# Altium footprint library Misc.PcbLib: 56 footprints (part 4 of 4)
Each footprint in its own frame and in the unit in brackets; x right, y up, seen from the top. Pads: shape width x height; smd on the part's side, far side on the other; paste and mask are expansions set on the pad; w line width, h text height; cw(c..) or ccw(c..) is an arc to the next point about the centre after c.
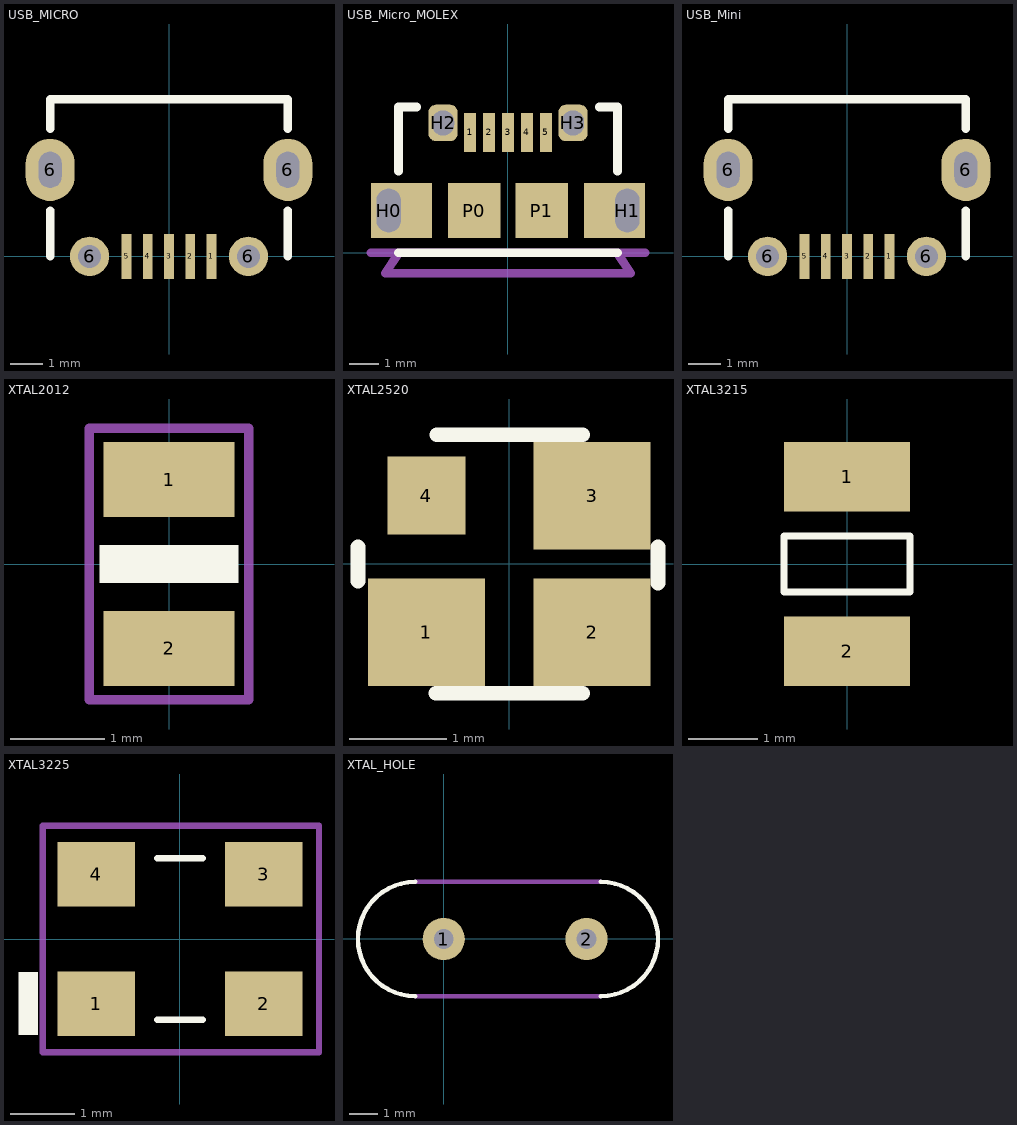
[diagram p3: the footprints below, top view; thin cyan lines are the x and y axes]

## USB_MICRO [mil] "USB Micro SMT 5S B"
height 118.11
pads (9):
  rect 11.81x54 smd: 1(51,0) 2(25.5,0) 3(0,0) 4(-25.5,0) 5(-51,0)
  oval 59.06x74.8 hole 27.56 slot 43.31 at 90 deg: 6(-143,104) 6(143,104)
  round 47.24 hole 27.5: 6(-95.5,0) 6(95.5,0)
Top Overlay:
  lines w10: -142.72,0 -142.72,55.12 ; -142.72,153.54 -142.72,188.98 142.72,188.98 142.72,153.54 ; 142.72,0 142.72,55.12

## USB_Micro_MOLEX [mm] "USB Micro-AB socket Molex 47589-0001"
height 2.5
pads (11):
  rect 0.4x1.35 smd: 1(-1.3,4.125) 2(-0.65,4.125) 3(0,4.125) 4(0.65,4.125) 5(1.3,4.125)
  rect 2.1x1.9 hole 0.83 slot 1.5 at 90 deg copper offset 0.44,0: H0(-4.09,1.45)
  rect 2.1x1.9 hole 0.83 slot 1.5 at 90 deg copper offset -0.44,0: H1(4.09,1.45)
  rrect50% 1x1.25 / inner rrect50% 1.15x1.25 / far side rrect50% 1.15x1.25 hole 0.75 slot 0.85 at 90 deg: H2(-2.225,4.45) H3(2.225,4.45)
  rect 1.8x1.9 smd: P0(-1.15,1.45) P1(1.15,1.45)
Top Overlay:
  lines w0.3: -3.75,0 3.75,0 ; -3.75,2.8 -3.75,5 -3.125,5 ; 3.125,5 3.75,5 3.75,2.8
Top Paste:
  rectangle: -3.7,0.5 -2.6,2.4
  rectangle: 2.6,0.5 3.7,2.4
Mechanical 1:
  lines w0.3: -4.7,0 4.7,0 ; -4.2,-0.7 -3.75,0 3.75,0 4.2,-0.7 -4.2,-0.7
  text "Overhang" at -1.5,-0.45 h0.3
3D body: height 2.76, standoff -0.55, extent -4.35,-1.175 4.3,4.719

## USB_Mini [mil] "USB Mini"
height 118.11
pads (9):
  rect 11.81x54 smd: 1(51,0) 2(25.5,0) 3(0,0) 4(-25.5,0) 5(-51,0)
  oval 59.06x74.8 hole 27.56 slot 43.31 at 90 deg: 6(-143,104) 6(143,104)
  round 47.24 hole 27.5: 6(-95.5,0) 6(95.5,0)
Top Overlay:
  lines w10: -142.72,0 -142.72,55.12 ; -142.72,153.54 -142.72,188.98 142.72,188.98 142.72,153.54 ; 142.72,0 142.72,55.12

## XTAL2012 [mm] "即0805   焊盘宽0.5  引脚间隔1mm 两边+0.1 长度+0.3"
height 2
pads (2):
  rect 1.4x0.8 smd: 1(0,0.9) 2(0,-0.9)
Top Overlay:
  region: -0.737,-0.2 0.737,-0.2 0.737,0.2 -0.737,0.2
Mechanical 15:
  lines w0.1: -0.85,-1.45 0.85,-1.45 0.85,1.45 -0.85,1.45 -0.85,-1.45

## XTAL2520 [mm]
pads (4):
  rect 1.2x1.1 smd: 1(-0.85,-0.7) 2(0.85,-0.7) 3(0.85,0.7)
  rect 0.8x0.8 smd: 4(-0.85,0.7)
Top Overlay:
  lines w0.152: -1.55,-0.175 -1.55,0.175 ; -0.75,-1.325 0.75,-1.325 ; -0.74,1.325 0.75,1.325 ; 1.525,-0.195 1.525,0.175

## XTAL3215 [mm]
pads (2):
  rect 1.8x1 smd: 1(0,1.25) 2(0,-1.25)
Top Overlay:
  lines w0.1: -0.9,-0.4 -0.9,0.4 0.9,0.4 0.9,-0.4 -0.9,-0.4
Mechanical 3:
  lines w0.1: -0.75,-1.4 cw(c-0.75,-1.6) -0.55,-1.6 0.55,-1.6 cw(c0.75,-1.6) 0.75,-1.4 ; -0.75,1.4 ccw(c-0.75,1.6) -0.55,1.6 0.55,1.6 ccw(c0.75,1.6) 0.75,1.4

## XTAL3225 [mm] "焊盘0.7x0.9 超出0.3"
height 1.1
pads (4):
  rect 1.2x1 smd: 1(-1.3,-1) 2(1.3,-1) 3(1.3,1) 4(-1.3,1)
Top Overlay:
  region: -2.494,-1.483 -2.2,-1.483 -2.2,-0.517 -2.494,-0.517
  lines w0.1: -0.35,-1.25 0.35,-1.25 ; -0.35,1.25 0.35,1.25
Mechanical 15:
  lines w0.1: -2.129,-1.754 2.154,-1.754 2.154,1.754 -2.129,1.754 -2.129,-1.754

## XTAL_HOLE [mm]
pads (2):
  round 1.5 hole 0.7: 1(-0.009,-0.005) 2(5.071,-0.005)
Top Overlay:
  lines w0.16: -1.025,-2.037 cw(c-1.025,-0.005) -1.025,2.027 ; 5.579,-2.037 ccw(c5.579,-0.005) 5.579,2.027
Mechanical 15:
  lines w0.16: -1.025,-2.037 5.579,-2.037 ; -1.025,2.027 5.579,2.027